# Altium schematic symbol library LED_Diode.SchLib: 1 symbol
Pins are listed as number, name and electrical type; pins without a type are passive.

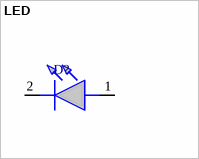
[diagram p0: symbol LED]

## LED
designator D?, comment 151031YS06000
WURTH ELEKTRONIK - 151031YS06000 - LED, Yellow, Through Hole, T-1 (3mm), 30 mA, 2 V, 590 nm; Geometry.Height: 5.5mm; Manufacturer_Name: Wurth Elektronik; Manufacturer_Part_Number: 151031YS06000; Mouser Part Number: 710-151031YS06000; Mouser Price/Stock: https://www.mouser.co.uk/ProductDetail/Wurth-Elektronik/151031YS06000?qs=LlUlMxKIyB3xSYYW%252BcuBiQ%3D%3D; Arrow Part Number: *; Arrow Price/Stock: *; Mouser Testing Part Number: *; Mouser Testing Price/Stock: *; Datasheet Link: https://katalog.we-online.de/led/datasheet/151031YS06000.pdf
footprint LED_BLUE
footprint LED_GREEN
footprint Type 3mm_white (THT, LED-3mm, 2pin- Body 4.15mm(max))
footprint LED_YELLOW
footprint LED_RED
footprint LED_3mm_RED
footprint LED_3mm_GREEN
footprint LED_3mm_YELLOW
footprint LED_3mm_WHITE
footprint LED_3mm_BLUE
pins: 1 A, 2 K